# EAGLE library part LTC2950 (library IC)
Linear Technology LTC2950
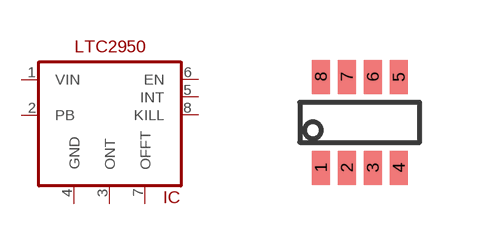
[diagram p91: symbol with the pads of SOT23-8; footprint SOT23-8]

Designator prefix IC

## LTC2950  [SOT23-8]
1  VIN  pwr
2  PB
3  ONT
4  GND  pwr
5  INT
6  EN
7  OFFT
8  KILL

## Footprint SOT23-8 (pad centres in mm)
smd 0.45 x 0.85: 1 -0.975,-1.137; 2 -0.325,-1.137; 3 0.325,-1.137; 4 0.975,-1.137; 5 0.975,1.137; 6 0.325,1.137; 7 -0.325,1.137; 8 -0.975,1.137